# Altium footprint library Radxa ROCK3 CM.PcbLib: 1 footprints
Each footprint in its own frame and in the unit in brackets; x right, y up, seen from the top. Pads: shape width x height; smd on the part's side, far side on the other; paste and mask are expansions set on the pad; w line width, h text height; cw(c..) or ccw(c..) is an arc to the next point about the centre after c.
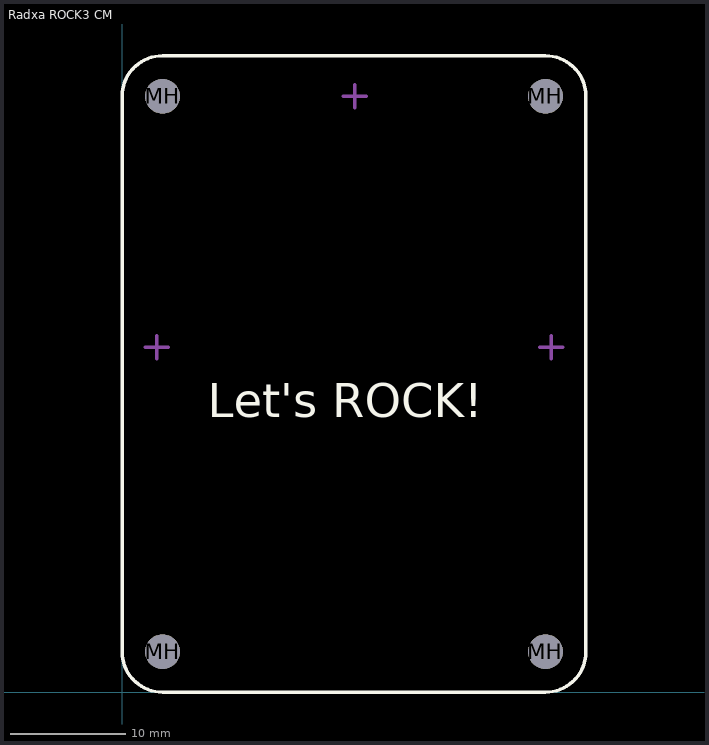
[diagram p0: the footprint, top view; thin cyan lines are the x and y axes]

## Radxa ROCK3 CM [mm]
pads (4):
  round 3 hole 3 unplated: MH(3.5,3.5) MH(3.5,51.5) MH(36.6,3.5) MH(36.6,51.5)
Top Overlay:
  lines w0.3: 0,3.5 ccw(c3.5,3.5) 3.5,0 36.6,0 ccw(c36.6,3.5) 40.1,3.5 40.1,51.5 ccw(c36.6,51.5) 36.6,55 3.5,55 ccw(c3.5,51.5) 0,51.5 0,3.5
  text "Let's ROCK!" at 7.419,22.796 h5
Mechanical 5:
  lines w0.3: 2,29.8 3,29.8 ; 3,28.8 3,29.8 ; 3,30.8 3,29.8 ; 4,29.8 3,29.8 ; 19.1,51.5 20.1,51.5 ; 20.1,50.5 20.1,51.5 ; 20.1,52.5 20.1,51.5 ; 21.1,51.5 20.1,51.5 ; 36.1,29.8 37.1,29.8 ; 37.1,28.8 37.1,29.8 ; 37.1,30.8 37.1,29.8 ; 38.1,29.8 37.1,29.8 ; 3,29.8 3,29.8 ; 20.1,51.5 20.1,51.5